# EAGLE library part RASPI_HDMI (library USSTCM)
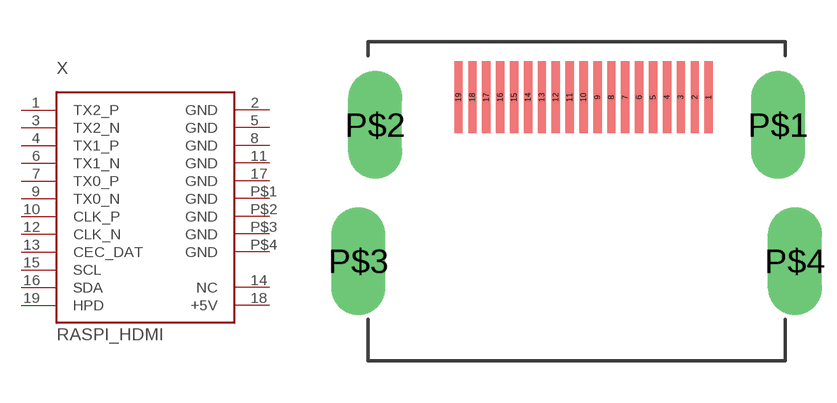
[diagram p5: symbol with the pads of RASPI_HDMI; footprint RASPI_HDMI]

Designator prefix X

## RASPI_HDMI  [RASPI_HDMI]
1  TX2_P
2  GND
3  TX2_N
4  TX1_P
5  GND
6  TX1_N
7  TX0_P
8  GND
9  TX0_N
10  CLK_P
11  GND
12  CLK_N
13  CEC_DAT
14  NC
15  SCL
16  SDA
17  GND
18  +5V
19  HPD
P$1  GND
P$2  GND
P$3  GND
P$4  GND

## Footprint RASPI_HDMI (pad centres in mm)
smd 0.3 x 2.6: 1 4.75,4; 2 4.25,4; 3 3.75,4; 4 3.25,4; 5 2.75,4; 6 2.25,4; 7 1.75,4; 8 1.25,4; 9 0.75,4; 10 0.25,4; 11 -0.25,4; 12 -0.75,4; 13 -1.25,4; 14 -1.75,4; 15 -2.25,4; 16 -2.75,4; 17 -3.25,4; 18 -3.75,4; 19 -4.25,4
drill 1.3 long: P$1 7.25,3; P$2 -7.25,3; P$3 -7.85,-1.9; P$4 7.85,-1.9